# EAGLE library part 8206 (library micro-intel)
MICROCOMPUTER/PERIPHERAL DEVICE
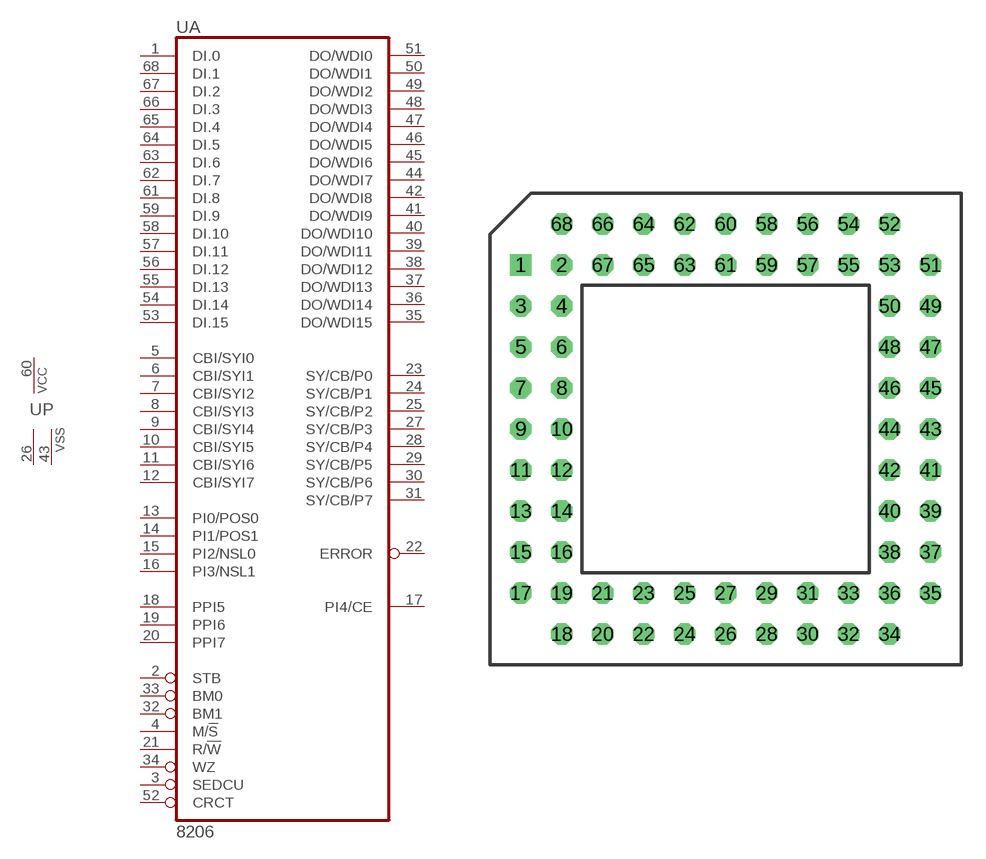
[diagram p38: symbol with the pads of PGA68-N; footprint PGA68-N]

Designator prefix U; gates A=8206 P=PWR2VSS

## 8206  [PGA68-N]
1  A:DI.0  in
2  A:STB  in
3  A:SEDCU  in
4  A:M/!S!  in
5  A:CBI/SYI0  in
6  A:CBI/SYI1  in
7  A:CBI/SYI2  in
8  A:CBI/SYI3  in
9  A:CBI/SYI4  in
10  A:CBI/SYI5  in
11  A:CBI/SYI6  in
12  A:CBI/SYI7  in
13  A:PI0/POS0  in
14  A:PI1/POS1  in
15  A:PI2/NSL0  in
16  A:PI3/NSL1  in
17  A:PI4/CE
18  A:PPI5  in
19  A:PPI6  in
20  A:PPI7  in
21  A:R/!W!  in
22  A:ERROR  out
23  A:SY/CB/P0  out
24  A:SY/CB/P1  out
25  A:SY/CB/P2  out
26  P:VSS  pwr
27  A:SY/CB/P3  out
28  A:SY/CB/P4  out
29  A:SY/CB/P5  out
30  A:SY/CB/P6  out
31  A:SY/CB/P7  out
32  A:BM1  in
33  A:BM0  in
34  A:WZ  in
35  A:DO/WDI15
36  A:DO/WDI14
37  A:DO/WDI13
38  A:DO/WDI12
39  A:DO/WDI11
40  A:DO/WDI10
41  A:DO/WDI9
42  A:DO/WDI8
43  P:VSS  pwr
44  A:DO/WDI7
45  A:DO/WDI6
46  A:DO/WDI5
47  A:DO/WDI4
48  A:DO/WDI3
49  A:DO/WDI2
50  A:DO/WDI1
51  A:DO/WDI0
52  A:CRCT  in
53  A:DI.15  in
54  A:DI.14  in
55  A:DI.13  in
56  A:DI.12  in
57  A:DI.11  in
58  A:DI.10  in
59  A:DI.9  in
60  P:VCC  pwr
61  A:DI.8  in
62  A:DI.7  in
63  A:DI.6  in
64  A:DI.5  in
65  A:DI.4  in
66  A:DI.3  in
67  A:DI.2  in
68  A:DI.1  in

## Footprint PGA68-N (pad centres in mm)
Pin Grid Array
drill 0.813 square: 1 -12.7,10.16
drill 0.813 octagon: 2 -10.16,10.16; 3 -12.7,7.62; 4 -10.16,7.62; 5 -12.7,5.08; 6 -10.16,5.08; 7 -12.7,2.54; 8 -10.16,2.54; 9 -12.7,0; 10 -10.16,0; 11 -12.7,-2.54; 12 -10.16,-2.54; 13 -12.7,-5.08; 14 -10.16,-5.08; 15 -12.7,-7.62; 16 -10.16,-7.62; 17 -12.7,-10.16; 18 -10.16,-12.7; 19 -10.16,-10.16; 20 -7.62,-12.7; 21 -7.62,-10.16; 22 -5.08,-12.7; 23 -5.08,-10.16; 24 -2.54,-12.7; 25 -2.54,-10.16; 26 0,-12.7; 27 0,-10.16; 28 2.54,-12.7; 29 2.54,-10.16; 30 5.08,-12.7; 31 5.08,-10.16; 32 7.62,-12.7; 33 7.62,-10.16; 34 10.16,-12.7; 35 12.7,-10.16; 36 10.16,-10.16; 37 12.7,-7.62; 38 10.16,-7.62; 39 12.7,-5.08; 40 10.16,-5.08; 41 12.7,-2.54; 42 10.16,-2.54; 43 12.7,0; 44 10.16,0; 45 12.7,2.54; 46 10.16,2.54; 47 12.7,5.08; 48 10.16,5.08; 49 12.7,7.62; 50 10.16,7.62; 51 12.7,10.16; 52 10.16,12.7; 53 10.16,10.16; 54 7.62,12.7; 55 7.62,10.16; 56 5.08,12.7; 57 5.08,10.16; 58 2.54,12.7; 59 2.54,10.16; 60 0,12.7; 61 0,10.16; 62 -2.54,12.7; 63 -2.54,10.16; 64 -5.08,12.7; 65 -5.08,10.16; 66 -7.62,12.7; 67 -7.62,10.16; 68 -10.16,12.7